# EAGLE library part TRS_SWITCHED (library PP_Connectors)
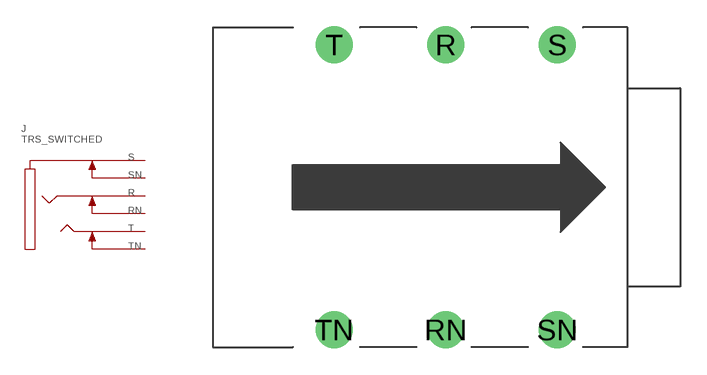
[diagram p16: symbol with the pads of NMJ6HCD2; footprint NMJ6HCD2]

Designator prefix J

## TRS_SWITCHED_NMJ6HCD2 (POPULATE: 1)  [NMJ6HCD2]
R  R
RN  RN
S  S
SN  SN
T  T
TN  TN

## Footprint NMJ6HCD2 (pad centres in mm)
drill 1.4: R -10.35,8.115; RN -10.35,-8.115; S -4,8.115; SN -4,-8.115; T -16.7,8.115; TN -16.7,-8.115